# Altium schematic symbol library power_suply.SchLib: 7 symbols
Pins are listed as number, name and electrical type; pins without a type are passive.

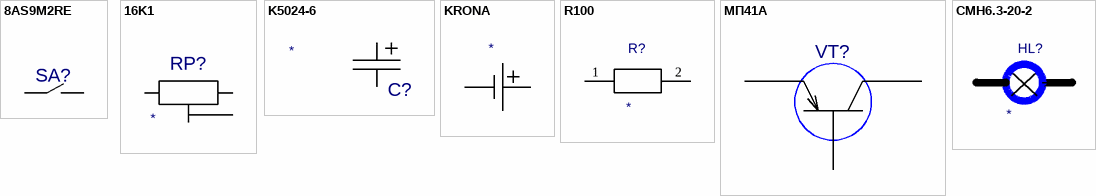
[diagram p0: symbols 8AS9M2RE to СМН6.3-20-2]

## 8AS9M2RE
designator SA?  (value not drawn)
Value: *
footprint 8AS9M2RE
pins: 1, 2

## 16K1
designator RP?  (value not drawn)
Value: *
footprint 16K1
pins: 1, 2, 3

## K5024-6
designator C?  (value not drawn)
Value: *
footprint K5024-6
pins: 1 I/OA, 2 I/OB, 3 hidden, 4 hidden, 5 hidden, 6 hidden

## KRONA
designator GB?  (value not drawn)
Value: *
footprint KRONA
pins: 1 hidden, 2 hidden, minus 1, plus 2

## R100
designator R?  (value not drawn)
Value: *
footprint R100
pins: 1, 2

## МП41А
designator VT?  (value not drawn)
Value: *
footprint П27
pins: B, E, K

## СМН6.3-20-2
designator HL?  (value not drawn)
Value: *
footprint HL_MINI
pins: 1, 2